# EAGLE library part 691412120009MB (library Terminal_Blocks_Connectors_rev15e)
WR-TBL Serie 412MB - 3.5mm Screwless 45° Entry Grey - 1.5mm2 Wires, 09 Pins=>Code : Con_TBL_Screwless_3.50_691412120009MB <http://katalog.we-online.de/media/images/eican/Con_TBL_Screwless_3.50_6914121200xxMB_pf2.jpg> Details see: http://katalog.we-online.de/en/em/691_412_120_0xxMB Created 2014-06-25, Karrer Zheng 2014 (C) Würth Elektronik
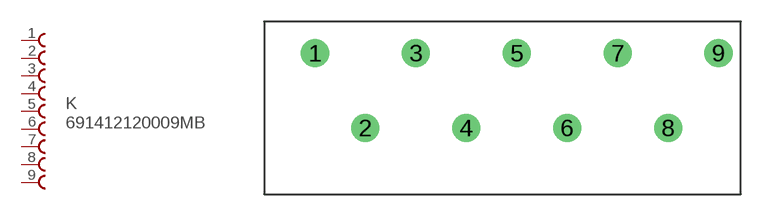
[diagram p398: symbol with the pads of 691412120009MB; footprint 691412120009MB]

Designator prefix K

## 691412120009MB  [691412120009MB]
1  1  pas
2  2  pas
3  3  pas
4  4  pas
5  5  pas
6  6  pas
7  7  pas
8  8  pas
9  9  pas

## Footprint 691412120009MB (pad centres in mm)
WR-TBL Serie 412MB - 3.5mm Screwless 45° Entry Grey - 1.5mm2 Wires,09 Pins
drill 1.3: 1 0.03,5.2; 2 3.53,0; 3 7.03,5.2; 4 10.53,0; 5 14.03,5.2; 6 17.53,0; 7 21.03,5.2; 8 24.53,0; 9 28.03,5.2